# EAGLE library part LCD_ERM2004-2 (library LCD_ERM2004-2)
ERM2004-2 Series Character Module Datasheet EastRising Technoligy Co., Limited Datasheet-Rev1.0
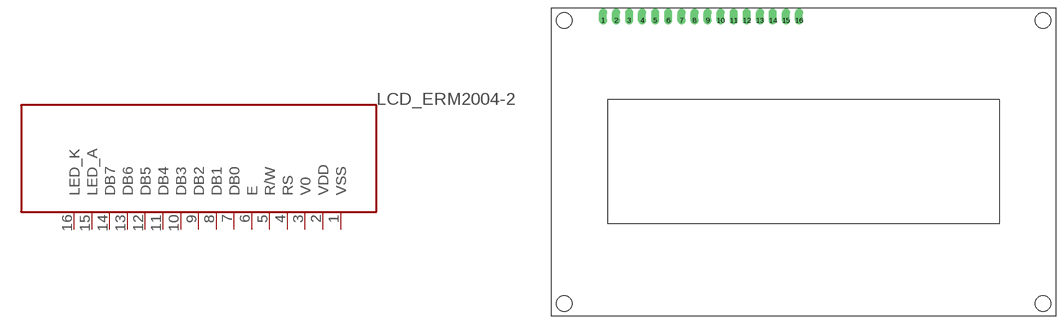
[diagram p0: symbol with the pads of ERM2004-2; footprint ERM2004-2]

Designator prefix -

## LCD_ERM2004-2, LCD_ERM2004-2-SERIES  [ERM2004-2]
1  VSS  pwr
2  VDD  pwr
3  V0
4  RS
5  R/W
6  E
7  DB0
8  DB1
9  DB2
10  DB3
11  DB4
12  DB5
13  DB6
14  DB7
15  LED_A
16  LED_K

## Footprint ERM2004-2 (pad centres in mm)
drill 1.016 offset: 1 10.033,-2.489; 2 12.548,-2.489; 3 15.113,-2.489; 4 17.628,-2.489; 5 20.193,-2.489; 6 22.708,-2.489; 7 25.273,-2.489; 8 27.788,-2.489; 9 30.353,-2.489; 10 32.868,-2.489; 11 35.433,-2.489; 12 37.948,-2.489; 13 40.513,-2.489; 14 43.028,-2.489; 15 45.593,-2.489; 16 48.108,-2.489
hole 2.997 at 2.489,-2.489
hole 2.997 at 2.489,-57.506
hole 2.997 at 95.504,-57.506
hole 2.997 at 95.504,-2.489